# Altium schematic symbol library KCSC02-102.SchLib: 1 symbol
Pins are listed as number, name and electrical type; pins without a type are passive.

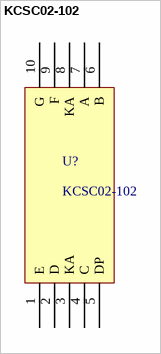
[diagram p0: symbol KCSC02-102]

## KCSC02-102
designator U?
The 7-segment Kingbright indicator constructively combines 8 LEDs in its housing: seven of them are laid out in the shape of a figure eight and another one represents a point in the lower right corner. Using the point you can display one digit of a number or some other character.
footprint KCSC02-102 (LED INDICATOR)
pins: 1 E, 2 D, 3 KA, 4 C, 5 DP, 6 B, 7 A, 8 KA, 9 F, 10 G